# EAGLE library part CON2X22 (library apple-idun)
Sullins RBM22DRTN
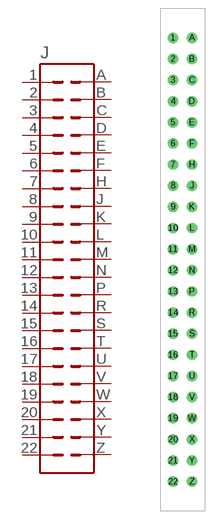
[diagram p3: symbol with the pads of CON2X22; footprint CON2X22]

Designator prefix J

## CON2X22  [CON2X22]
1  1  pas
2  2  pas
3  3  pas
4  4  pas
5  5  pas
6  6  pas
7  7  pas
8  8  pas
9  9  pas
10  10  pas
11  11  pas
12  12  pas
13  13  pas
14  14  pas
15  15  pas
16  16  pas
17  17  pas
18  18  pas
19  19  pas
20  20  pas
21  21  pas
22  22  pas
A  A  pas
B  B  pas
C  C  pas
D  D  pas
E  E  pas
F  F  pas
H  H  pas
J  J  pas
K  K  pas
L  L  pas
M  M  pas
N  N  pas
P  P  pas
R  R  pas
S  S  pas
T  T  pas
U  U  pas
V  V  pas
W  W  pas
X  X  pas
Y  Y  pas
Z  Z  pas

## Footprint CON2X22 (pad centres in mm)
drill 1.3: 1 -1.778,41.605; 2 -1.778,37.643; 3 -1.778,33.68; 4 -1.778,29.718; 5 -1.778,25.756; 6 -1.778,21.793; 7 -1.778,17.831; 8 -1.778,13.868; 9 -1.778,9.906; 10 -1.778,5.944; 11 -1.778,1.981; 12 -1.778,-1.981; 13 -1.778,-5.944; 14 -1.778,-9.906; 15 -1.778,-13.868; 16 -1.778,-17.831; 17 -1.778,-21.793; 18 -1.778,-25.756; 19 -1.778,-29.718; 20 -1.778,-33.68; 21 -1.778,-37.643; 22 -1.778,-41.605; A 1.778,41.605; B 1.778,37.643; C 1.778,33.68; D 1.778,29.718; E 1.778,25.756; F 1.778,21.793; H 1.778,17.831; J 1.778,13.868; K 1.778,9.906; L 1.778,5.944; M 1.778,1.981; N 1.778,-1.981; P 1.778,-5.944; R 1.778,-9.906; S 1.778,-13.868; T 1.778,-17.831; U 1.778,-21.793; V 1.778,-25.756; W 1.778,-29.718; X 1.778,-33.68; Y 1.778,-37.643; Z 1.778,-41.605